# EAGLE library part MCT9001SD (library SamacSys_Parts)
Transistor Output Optocouplers Source: Datasheet <https://www.onsemi.com/pub/Collateral/MCT9001-D.pdf>
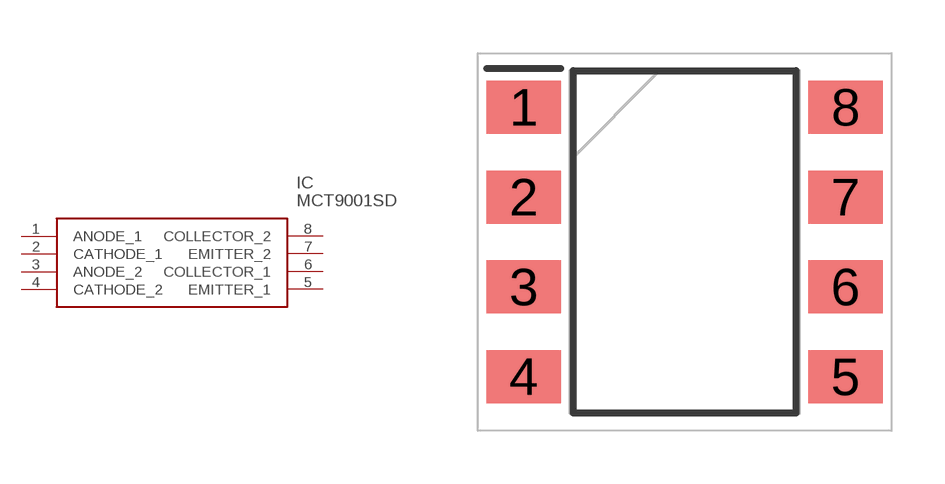
[diagram p188: symbol with the pads of SOP254P1016X385-8N; footprint SOP254P1016X385-8N]

Designator prefix IC

## MCT9001SD (DESCRIPTION: Transistor Output Optocouplers; HEIGHT: 3.85mm; MANUFACTURER_NAME: ON Semiconductor; MANUFACTURER_PART_NUMBER: MCT9001SD; MOUSER_PART_NUMBER: 512-MCT9001SD; MOUSER_PRICE-STOCK: https://www.mouser.co.uk/ProductDetail/ON-Semiconductor-Fairchild/MCT9001SD?qs=iXS6m0csglIJrd2jBm7BRg%3D%3D)  [SOP254P1016X385-8N]
1  ANODE_1
2  CATHODE_1
3  ANODE_2
4  CATHODE_2
5  EMITTER_1
6  COLLECTOR_1
7  EMITTER_2
8  COLLECTOR_2

## Footprint SOP254P1016X385-8N (pad centres in mm)
MCT9001SD
smd 2.1 x 1.5: 1 -4.55,3.81; 2 -4.55,1.27; 3 -4.55,-1.27; 4 -4.55,-3.81; 5 4.55,-3.81; 6 4.55,-1.27; 7 4.55,1.27; 8 4.55,3.81